# EAGLE library part SIL13EXXX* (library te-fixed-resistors)
General Purpose Resistor Networks - 12 Common Terminal Description Fully automated production techniques, ensure this extensive range offers you consistently high standards of performance and reliability. TE Connectivity (TE) can meet all your demands with its range of 4 to 13 resistor elements in common format and 3 to 7 resistor elements in isolated types. The substrate and lead frame provide exceptional strength and the resistors are protected from humidity and thermal shock by a hardwearing, solvent proof black coating. TE Connectivity (TE) will also manufacture custom design networks for your special requirements. Please contact our Sales Action Desk for details. Key Features 2% & 5% Tolerances Low Price Keeps Production Costs Down Solvent Proof Coating Very Wide Range Low Profile (5.08mm Max.) Very Strong Construction High Insulation Resistance How to order Common Part No. of pins Circuit config Resistance Value Tolerance SIL 13 - 13 Pins E - Common Terminal The first two digits are significant fig- ures of resistance value and the third denotes the number of zeros following. e.g. 220R: 221 4K7: 472 51K: 513 470K: 474 J - 5% G - 2% Ref: Datasheet <http://www.te.com/commerce/DocumentDelivery/DDEController?Action=showdoc&DocId=Data+Sheet%7F1773204%7FH%7Fpdf%7FEnglish%7FENG_DS_1773204_H.pdf%7F1623095-1>
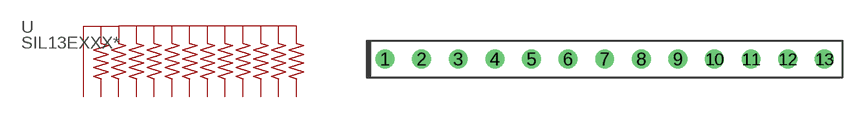
[diagram p12: symbol with the pads of TE_SIP254P3302X250X508-13N; footprint TE_SIP254P3302X250X508-13N]

Designator prefix -

## SIL13EXXXG, SIL13EXXXJ  [TE_SIP254P3302X250X508-13N]
1  C  pas
2  R1  pas
3  R2  pas
4  R3  pas
5  R4  pas
6  R5  pas
7  R6  pas
8  R7  pas
9  R8  pas
10  R9  pas
11  R10  pas
12  R11  pas
13  R12  pas

## Footprint TE_SIP254P3302X250X508-13N (pad centres in mm)
Single Inline Package (SIP13) 33.02mm L × 2.5mm W x 5.08mm H --------------------------------------------------
drill 0.8: 1 -15.24,0; 2 -12.7,0; 3 -10.16,0; 4 -7.62,0; 5 -5.08,0; 6 -2.54,0; 7 0,0; 8 2.54,0; 9 5.08,0; 10 7.62,0; 11 10.16,0; 12 12.7,0; 13 15.24,0